# EAGLE library part TACTILE_JOY (library Tactile_Joy)
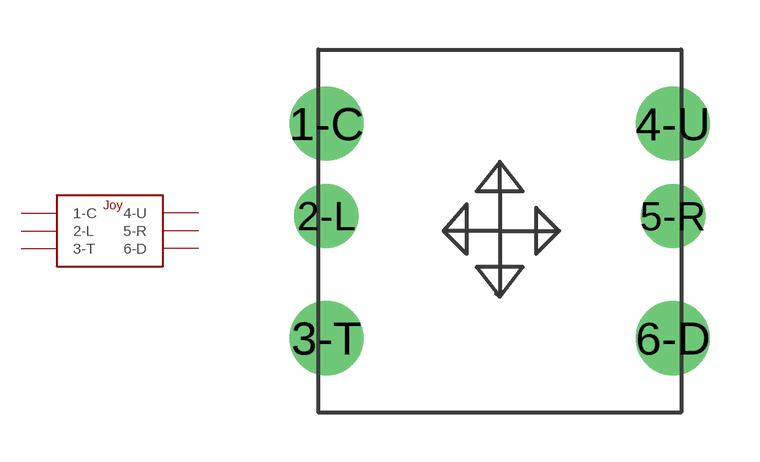
[diagram p0: symbol with the pads of TACTILE_JOY; footprint TACTILE_JOY]

Designator prefix -

## TACTILE_JOY  [TACTILE_JOY]
1-C  1-C  in
2-L  2-L  in
3-T  3-T  in
4-U  4-U  in
5-R  5-R  in
6-D  6-D  in

## Footprint TACTILE_JOY (pad centres in mm)
drill 1.5: 1-C -5.25,3.25; 3-T -5.25,-3.25; 4-U 5.25,3.25; 6-D 5.25,-3.25
drill 1.3: 2-L -5.25,0.45; 5-R 5.25,0.45